# EAGLE library part V23079 (library custom)
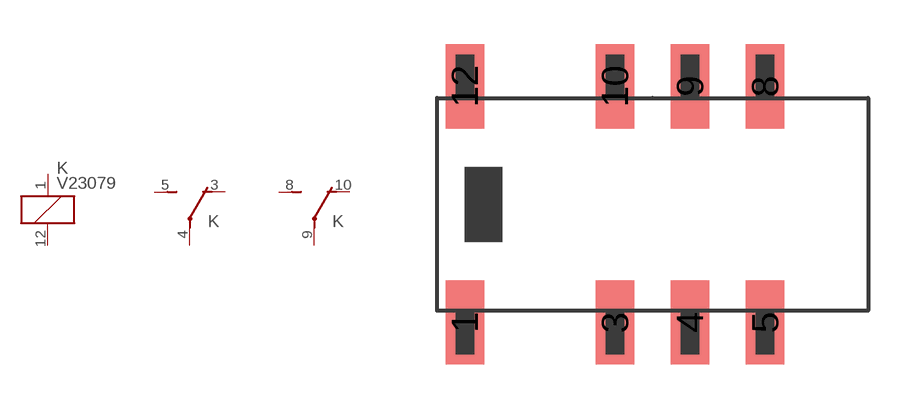
[diagram p3: symbol with the pads of V23079D; footprint V23079D]

Designator prefix K; gates G$1=K G$2=U G$3=U

## V23079D2001B301  [V23079D]
1  G$1:1  pas
3  G$2:O  pas
4  G$2:P  pas
5  G$2:S  pas
8  G$3:S  pas
9  G$3:P  pas
10  G$3:O  pas
12  G$1:2  pas

## Footprint V23079D (pad centres in mm)
smd 1.3 x 2.85: 1 -6.35,-4; 3 -1.27,-4; 4 1.27,-4; 5 3.81,-4; 8 3.81,4; 9 1.27,4; 10 -1.27,4; 12 -6.35,4